# Altium footprint library WR-BTB.PcbLib: 27 footprints (part 1 of 2)
Each footprint in its own frame and in the unit in brackets; x right, y up, seen from the top. Pads: shape width x height; smd on the part's side, far side on the other; paste and mask are expansions set on the pad; w line width, h text height; cw(c..) or ccw(c..) is an arc to the next point about the centre after c.
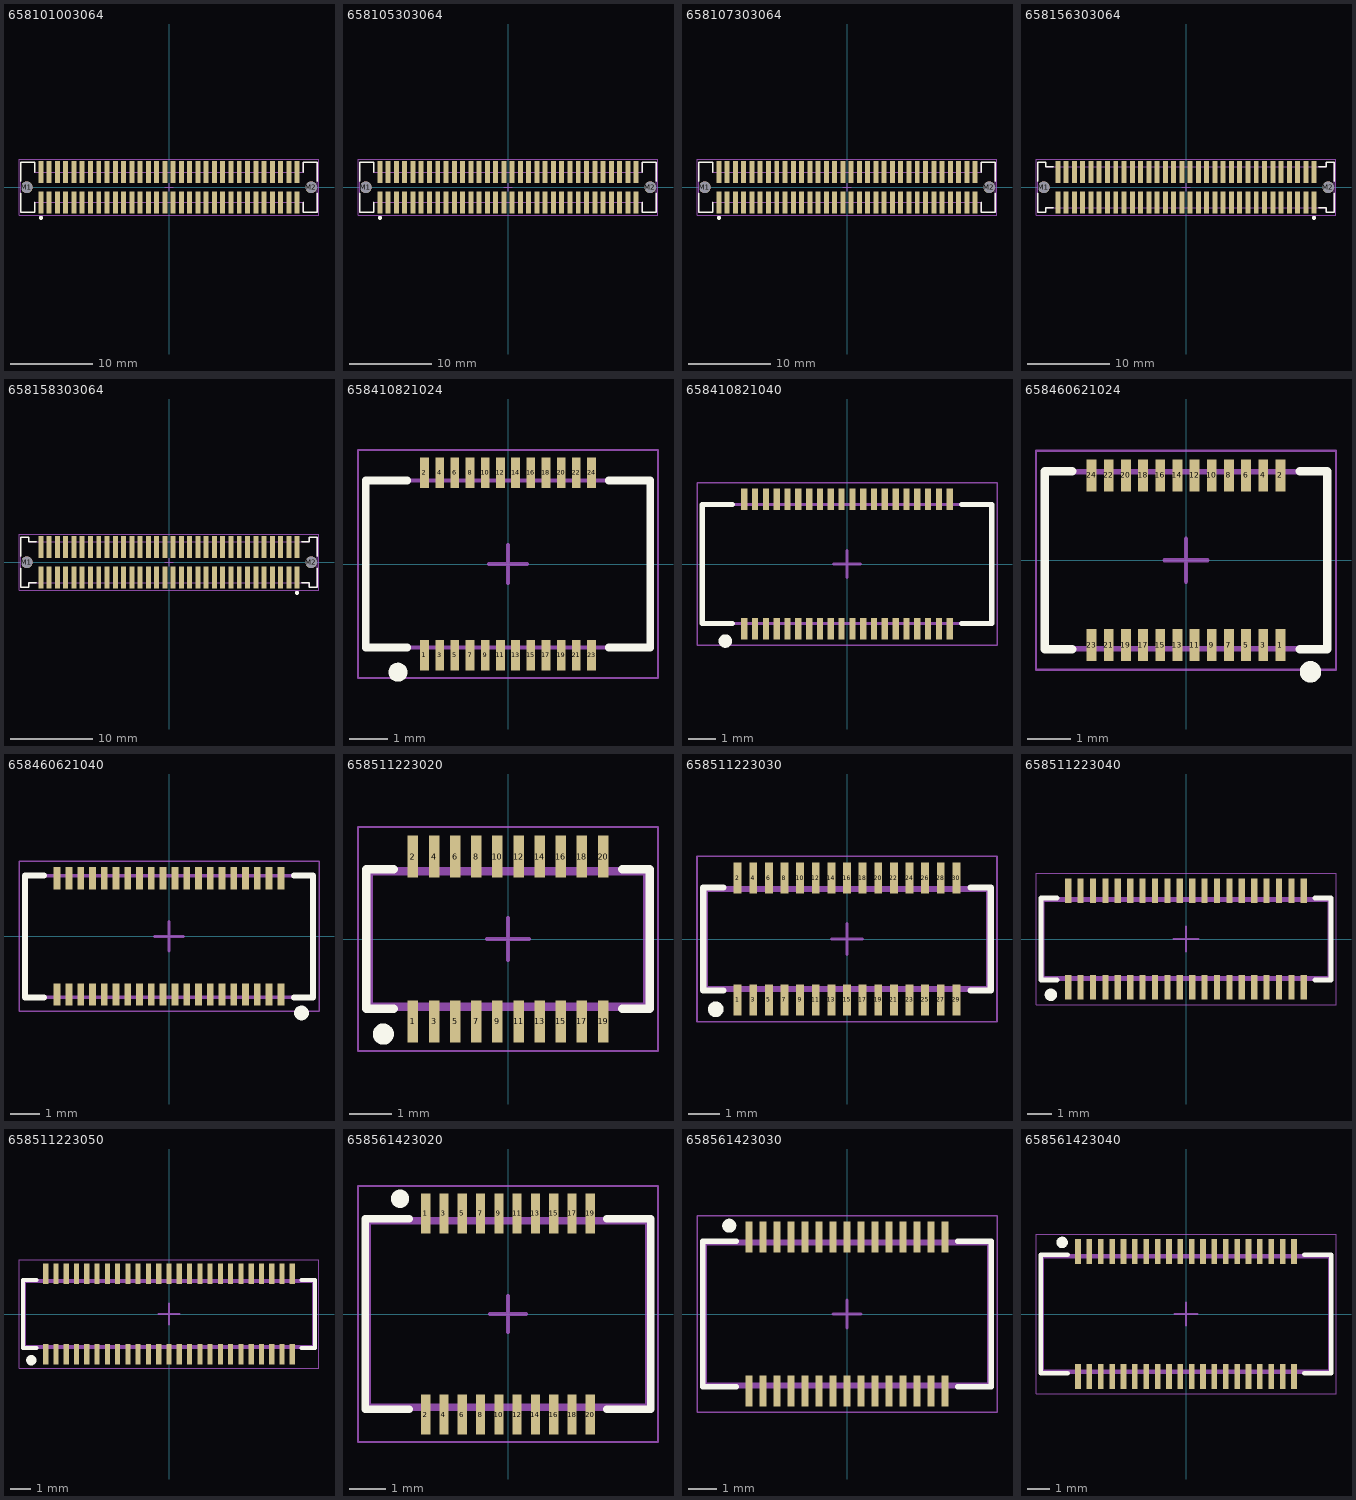
[diagram p0: the footprints below, top view; thin cyan lines are the x and y axes]

## 658101003064 [mm] "1.00mm SMT Female Shrouded Vertical Receptacle 10.30mm height, 64p"
height 10.3
pads (66):
  rect 0.6x2.7 smd: 1(-15.5,-1.85) 2(-15.5,1.85) 3(-14.5,-1.85) 4(-14.5,1.85) 5(-13.5,-1.85) 6(-13.5,1.85) 7(-12.5,-1.85) 8(-12.5,1.85) 9(-11.5,-1.85) 10(-11.5,1.85) 11(-10.5,-1.85) 12(-10.5,1.85) 13(-9.5,-1.85) 14(-9.5,1.85) 15(-8.5,-1.85) 16(-8.5,1.85) 17(-7.5,-1.85) 18(-7.5,1.85) 19(-6.5,-1.85) 20(-6.5,1.85) 21(-5.5,-1.85) 22(-5.5,1.85) 23(-4.5,-1.85) 24(-4.5,1.85) 25(-3.5,-1.85) 26(-3.5,1.85) 27(-2.5,-1.85) 28(-2.5,1.85) 29(-1.5,-1.85) 30(-1.5,1.85) 31(-0.5,-1.85) 32(-0.5,1.85) 33(0.5,-1.85) 34(0.5,1.85) 35(1.5,-1.85) 36(1.5,1.85) 37(2.5,-1.85) 38(2.5,1.85) 39(3.5,-1.85) 40(3.5,1.85) 41(4.5,-1.85) 42(4.5,1.85) 43(5.5,-1.85) 44(5.5,1.85) 45(6.5,-1.85) 46(6.5,1.85) 47(7.5,-1.85) 48(7.5,1.85) 49(8.5,-1.85) 50(8.5,1.85) 51(9.5,-1.85) 52(9.5,1.85) 53(10.5,-1.85) 54(10.5,1.85) 55(11.5,-1.85) 56(11.5,1.85) 57(12.5,-1.85) 58(12.5,1.85) 59(13.5,-1.85) 60(13.5,1.85) 61(14.5,-1.85) 62(14.5,1.85) 63(15.5,-1.85) 64(15.5,1.85)
  round 1.4 hole 1.4 unplated: M1(-17.2,0) M2(17.2,0)
Top Overlay:
  circle w0.25: c-15.5,-3.7 r0.125
  lines w0.2: -17.95,-0.75 -17.95,-3.025 -16.23,-3.025 -16.23,-1.805 ; -17.95,0.75 -17.95,3.025 -16.23,3.025 -16.23,1.805 ; 16.23,-1.805 16.23,-3.025 17.95,-3.025 17.95,-0.75 ; 16.23,1.805 16.23,3.025 17.95,3.025 17.95,0.75
Top Assembly:
  lines w0.1: -16.23,1.805 -16.23,3.025 -17.95,3.025 -17.95,-3.025 -16.23,-3.025 -16.23,-1.805 -16.225,-1.8 ; -16.225,-1.805 16.23,-1.805 16.23,-3.025 17.95,-3.025 17.95,3.025 16.23,3.025 16.23,1.805 ; -16.225,1.8 16.23,1.8
Top Designator:
  text ".Designator" at -3.647,-0.357 h1
Top 3D Body:
  lines w0.1: -16.23,1.805 -16.23,3.025 -17.95,3.025 -17.95,-3.025 -16.23,-3.025 -16.23,-1.805 -16.225,-1.8 ; -16.225,-1.805 16.23,-1.805 16.23,-3.025 17.95,-3.025 17.95,3.025 16.23,3.025 16.23,1.805 ; -16.225,1.8 16.23,1.8
Top Courtyard:
  lines w0.05: -18.15,-3.4 18.15,-3.4 18.15,3.4 -18.15,3.4 -18.15,-3.4
Top Component Center:
  lines w0.1: -0.5,0 0.5,0 ; 0,-0.5 0,0.5
3D body "658101003064.stp": height 10.55, standoff -0.75, extent -17.95,-3.35 17.95,3.35

## 658105303064 [mm] "1.00mm SMT Female Shrouded Vertical Receptacle 5.30mm height, 64p"
height 5.3
pads (66):
  rect 0.6x2.7 smd: 1(-15.5,-1.85) 2(-15.5,1.85) 3(-14.5,-1.85) 4(-14.5,1.85) 5(-13.5,-1.85) 6(-13.5,1.85) 7(-12.5,-1.85) 8(-12.5,1.85) 9(-11.5,-1.85) 10(-11.5,1.85) 11(-10.5,-1.85) 12(-10.5,1.85) 13(-9.5,-1.85) 14(-9.5,1.85) 15(-8.5,-1.85) 16(-8.5,1.85) 17(-7.5,-1.85) 18(-7.5,1.85) 19(-6.5,-1.85) 20(-6.5,1.85) 21(-5.5,-1.85) 22(-5.5,1.85) 23(-4.5,-1.85) 24(-4.5,1.85) 25(-3.5,-1.85) 26(-3.5,1.85) 27(-2.5,-1.85) 28(-2.5,1.85) 29(-1.5,-1.85) 30(-1.5,1.85) 31(-0.5,-1.85) 32(-0.5,1.85) 33(0.5,-1.85) 34(0.5,1.85) 35(1.5,-1.85) 36(1.5,1.85) 37(2.5,-1.85) 38(2.5,1.85) 39(3.5,-1.85) 40(3.5,1.85) 41(4.5,-1.85) 42(4.5,1.85) 43(5.5,-1.85) 44(5.5,1.85) 45(6.5,-1.85) 46(6.5,1.85) 47(7.5,-1.85) 48(7.5,1.85) 49(8.5,-1.85) 50(8.5,1.85) 51(9.5,-1.85) 52(9.5,1.85) 53(10.5,-1.85) 54(10.5,1.85) 55(11.5,-1.85) 56(11.5,1.85) 57(12.5,-1.85) 58(12.5,1.85) 59(13.5,-1.85) 60(13.5,1.85) 61(14.5,-1.85) 62(14.5,1.85) 63(15.5,-1.85) 64(15.5,1.85)
  round 1.4 hole 1.4 unplated: M1(-17.2,0) M2(17.2,0)
Top Overlay:
  circle w0.25: c-15.5,-3.7 r0.125
  lines w0.2: -17.95,-0.75 -17.95,-3.025 -16.23,-3.025 -16.23,-1.805 ; -17.95,0.75 -17.95,3.025 -16.23,3.025 -16.23,1.805 ; 16.23,-1.805 16.23,-3.025 17.95,-3.025 17.95,-0.75 ; 16.23,1.805 16.23,3.025 17.95,3.025 17.95,0.75
Top Assembly:
  lines w0.1: -16.23,1.805 -16.23,3.025 -17.95,3.025 -17.95,-3.025 -16.23,-3.025 -16.23,-1.805 -16.225,-1.8 ; -16.225,-1.805 16.23,-1.805 16.23,-3.025 17.95,-3.025 17.95,3.025 16.23,3.025 16.23,1.805 ; -16.225,1.8 16.23,1.8
Top Designator:
  text ".Designator" at -3.647,-0.357 h1
Top 3D Body:
  lines w0.1: -16.23,1.805 -16.23,3.025 -17.95,3.025 -17.95,-3.025 -16.23,-3.025 -16.23,-1.805 -16.225,-1.8 ; -16.225,-1.805 16.23,-1.805 16.23,-3.025 17.95,-3.025 17.95,3.025 16.23,3.025 16.23,1.805 ; -16.225,1.8 16.23,1.8
Top Courtyard:
  lines w0.05: -18.15,-3.4 18.15,-3.4 18.15,3.4 -18.15,3.4 -18.15,-3.4
Top Component Center:
  lines w0.1: -0.5,0 0.5,0 ; 0,-0.5 0,0.5
3D body "658105303064.stp": height 5.55, standoff -0.75, extent -17.95,-3.35 17.95,3.35

## 658107303064 [mm] "1.00mm SMT Female Shrouded Vertical Receptacle 7.30mm height, 64p"
height 7.3
pads (66):
  rect 0.6x2.7 smd: 1(-15.5,-1.85) 2(-15.5,1.85) 3(-14.5,-1.85) 4(-14.5,1.85) 5(-13.5,-1.85) 6(-13.5,1.85) 7(-12.5,-1.85) 8(-12.5,1.85) 9(-11.5,-1.85) 10(-11.5,1.85) 11(-10.5,-1.85) 12(-10.5,1.85) 13(-9.5,-1.85) 14(-9.5,1.85) 15(-8.5,-1.85) 16(-8.5,1.85) 17(-7.5,-1.85) 18(-7.5,1.85) 19(-6.5,-1.85) 20(-6.5,1.85) 21(-5.5,-1.85) 22(-5.5,1.85) 23(-4.5,-1.85) 24(-4.5,1.85) 25(-3.5,-1.85) 26(-3.5,1.85) 27(-2.5,-1.85) 28(-2.5,1.85) 29(-1.5,-1.85) 30(-1.5,1.85) 31(-0.5,-1.85) 32(-0.5,1.85) 33(0.5,-1.85) 34(0.5,1.85) 35(1.5,-1.85) 36(1.5,1.85) 37(2.5,-1.85) 38(2.5,1.85) 39(3.5,-1.85) 40(3.5,1.85) 41(4.5,-1.85) 42(4.5,1.85) 43(5.5,-1.85) 44(5.5,1.85) 45(6.5,-1.85) 46(6.5,1.85) 47(7.5,-1.85) 48(7.5,1.85) 49(8.5,-1.85) 50(8.5,1.85) 51(9.5,-1.85) 52(9.5,1.85) 53(10.5,-1.85) 54(10.5,1.85) 55(11.5,-1.85) 56(11.5,1.85) 57(12.5,-1.85) 58(12.5,1.85) 59(13.5,-1.85) 60(13.5,1.85) 61(14.5,-1.85) 62(14.5,1.85) 63(15.5,-1.85) 64(15.5,1.85)
  round 1.4 hole 1.4 unplated: M1(-17.2,0) M2(17.2,0)
Top Overlay:
  circle w0.25: c-15.5,-3.7 r0.125
  lines w0.2: -17.95,-0.75 -17.95,-3.025 -16.23,-3.025 -16.23,-1.805 ; -17.95,0.75 -17.95,3.025 -16.23,3.025 -16.23,1.805 ; 16.23,-1.805 16.23,-3.025 17.95,-3.025 17.95,-0.75 ; 16.23,1.805 16.23,3.025 17.95,3.025 17.95,0.75
Top Assembly:
  lines w0.1: -16.23,1.805 -16.23,3.025 -17.95,3.025 -17.95,-3.025 -16.23,-3.025 -16.23,-1.805 -16.225,-1.8 ; -16.225,-1.805 16.23,-1.805 16.23,-3.025 17.95,-3.025 17.95,3.025 16.23,3.025 16.23,1.805 ; -16.225,1.8 16.23,1.8
Top Designator:
  text ".Designator" at -3.647,-0.357 h1
Top 3D Body:
  lines w0.1: -16.23,1.805 -16.23,3.025 -17.95,3.025 -17.95,-3.025 -16.23,-3.025 -16.23,-1.805 -16.225,-1.8 ; -16.225,-1.805 16.23,-1.805 16.23,-3.025 17.95,-3.025 17.95,3.025 16.23,3.025 16.23,1.805 ; -16.225,1.8 16.23,1.8
Top Courtyard:
  lines w0.05: -18.15,-3.4 18.15,-3.4 18.15,3.4 -18.15,3.4 -18.15,-3.4
Top Component Center:
  lines w0.1: -0.5,0 0.5,0 ; 0,-0.5 0,0.5
3D body "658107303064.stp": height 7.55, standoff -0.75, extent -17.95,-3.35 17.95,3.35

## 658156303064 [mm] "1.00mm SMT Male Shrouded Vertical Plug 6.35mm height, 64p"
height 6.35
pads (66):
  rect 0.6x2.7 smd: 1(15.5,-1.85) 2(15.5,1.85) 3(14.5,-1.85) 4(14.5,1.85) 5(13.5,-1.85) 6(13.5,1.85) 7(12.5,-1.85) 8(12.5,1.85) 9(11.5,-1.85) 10(11.5,1.85) 11(10.5,-1.85) 12(10.5,1.85) 13(9.5,-1.85) 14(9.5,1.85) 15(8.5,-1.85) 16(8.5,1.85) 17(7.5,-1.85) 18(7.5,1.85) 19(6.5,-1.85) 20(6.5,1.85) 21(5.5,-1.85) 22(5.5,1.85) 23(4.5,-1.85) 24(4.5,1.85) 25(3.5,-1.85) 26(3.5,1.85) 27(2.5,-1.85) 28(2.5,1.85) 29(1.5,-1.85) 30(1.5,1.85) 31(0.5,-1.85) 32(0.5,1.85) 33(-0.5,-1.85) 34(-0.5,1.85) 35(-1.5,-1.85) 36(-1.5,1.85) 37(-2.5,-1.85) 38(-2.5,1.85) 39(-3.5,-1.85) 40(-3.5,1.85) 41(-4.5,-1.85) 42(-4.5,1.85) 43(-5.5,-1.85) 44(-5.5,1.85) 45(-6.5,-1.85) 46(-6.5,1.85) 47(-7.5,-1.85) 48(-7.5,1.85) 49(-8.5,-1.85) 50(-8.5,1.85) 51(-9.5,-1.85) 52(-9.5,1.85) 53(-10.5,-1.85) 54(-10.5,1.85) 55(-11.5,-1.85) 56(-11.5,1.85) 57(-12.5,-1.85) 58(-12.5,1.85) 59(-13.5,-1.85) 60(-13.5,1.85) 61(-14.5,-1.85) 62(-14.5,1.85) 63(-15.5,-1.85) 64(-15.5,1.85)
  round 1.4 hole 1.4 unplated: M1(-17.2,0) M2(17.2,0)
Top Overlay:
  circle w0.25: c15.5,-3.7 r0.125
  lines w0.2: -17.95,-0.75 -17.95,-3.025 -16.95,-3.025 -16.95,-2.5 -16.1,-2.5 ; -17.95,0.75 -17.95,3.025 -16.95,3.025 -16.95,2.5 -16.1,2.5 ; 16.1,-2.5 16.95,-2.5 16.95,-3.025 17.95,-3.025 17.95,-0.75 ; 16.1,2.5 16.95,2.5 16.95,3.025 17.95,3.025 17.95,0.75
Top Assembly:
  lines w0.1: -17.95,-3.025 -16.95,-3.025 -16.95,-2.5 16.95,-2.5 16.95,-3.025 17.95,-3.025 17.95,3.025 16.95,3.025 16.95,2.5 -16.95,2.5 -16.95,3.025 -17.95,3.025 -17.95,-3.025
Top Designator:
  text ".Designator" at -3.647,-0.357 h1
Top 3D Body:
  lines w0.1: -17.95,-3.025 -17.95,3.025 -16.95,3.025 -16.95,2.5 16.95,2.5 16.95,3.025 17.95,3.025 17.95,-3.025 16.95,-3.025 16.95,-2.5 -16.95,-2.5 -16.95,-3.025 -17.95,-3.025
Top Courtyard:
  lines w0.05: -18.15,-3.4 18.15,-3.4 18.15,3.4 -18.15,3.4 -18.15,-3.4
Top Component Center:
  lines w0.1: -0.5,0 0.5,0 ; 0,-0.5 0,0.5
3D body "658156303064.stp": height 6.6, standoff -0.75, extent -17.95,-3.3 17.95,3.3

## 658158303064 [mm] "1.00mm SMT Male Shrouded Vertical Plug 8.35mm height, 64p"
height 8.35
pads (66):
  rect 0.6x2.7 smd: 1(15.5,-1.85) 2(15.5,1.85) 3(14.5,-1.85) 4(14.5,1.85) 5(13.5,-1.85) 6(13.5,1.85) 7(12.5,-1.85) 8(12.5,1.85) 9(11.5,-1.85) 10(11.5,1.85) 11(10.5,-1.85) 12(10.5,1.85) 13(9.5,-1.85) 14(9.5,1.85) 15(8.5,-1.85) 16(8.5,1.85) 17(7.5,-1.85) 18(7.5,1.85) 19(6.5,-1.85) 20(6.5,1.85) 21(5.5,-1.85) 22(5.5,1.85) 23(4.5,-1.85) 24(4.5,1.85) 25(3.5,-1.85) 26(3.5,1.85) 27(2.5,-1.85) 28(2.5,1.85) 29(1.5,-1.85) 30(1.5,1.85) 31(0.5,-1.85) 32(0.5,1.85) 33(-0.5,-1.85) 34(-0.5,1.85) 35(-1.5,-1.85) 36(-1.5,1.85) 37(-2.5,-1.85) 38(-2.5,1.85) 39(-3.5,-1.85) 40(-3.5,1.85) 41(-4.5,-1.85) 42(-4.5,1.85) 43(-5.5,-1.85) 44(-5.5,1.85) 45(-6.5,-1.85) 46(-6.5,1.85) 47(-7.5,-1.85) 48(-7.5,1.85) 49(-8.5,-1.85) 50(-8.5,1.85) 51(-9.5,-1.85) 52(-9.5,1.85) 53(-10.5,-1.85) 54(-10.5,1.85) 55(-11.5,-1.85) 56(-11.5,1.85) 57(-12.5,-1.85) 58(-12.5,1.85) 59(-13.5,-1.85) 60(-13.5,1.85) 61(-14.5,-1.85) 62(-14.5,1.85) 63(-15.5,-1.85) 64(-15.5,1.85)
  round 1.4 hole 1.4 unplated: M1(-17.2,0) M2(17.2,0)
Top Overlay:
  circle w0.25: c15.5,-3.7 r0.125
  lines w0.2: -17.95,-0.75 -17.95,-3.025 -16.95,-3.025 -16.95,-2.5 -16.1,-2.5 ; -17.95,0.75 -17.95,3.025 -16.95,3.025 -16.95,2.5 -16.1,2.5 ; 16.1,-2.5 16.95,-2.5 16.95,-3.025 17.95,-3.025 17.95,-0.75 ; 16.1,2.5 16.95,2.5 16.95,3.025 17.95,3.025 17.95,0.75
Top Assembly:
  lines w0.1: -17.95,-3.025 -17.95,3.025 -16.95,3.025 -16.95,2.5 16.95,2.5 16.95,3.025 17.95,3.025 17.95,-3.025 16.95,-3.025 16.95,-2.5 -16.95,-2.5 -16.95,-3.025 -17.95,-3.025
Top Designator:
  text ".Designator" at -3.647,-0.357 h1
Top 3D Body:
  lines w0.1: -17.95,-3.025 -16.95,-3.025 -16.95,-2.5 16.95,-2.5 16.95,-3.025 17.95,-3.025 17.95,3.025 16.95,3.025 16.95,2.5 -16.95,2.5 -16.95,3.025 -17.95,3.025 -17.95,-3.025
Top Courtyard:
  lines w0.05: -18.15,-3.4 18.15,-3.4 18.15,3.4 -18.15,3.4 -18.15,-3.4
Top Component Center:
  lines w0.1: -0.5,0 0.5,0 ; 0,-0.5 0,0.5
3D body "658158303064.stp": height 8.6, standoff -0.75, extent -17.95,-3.3 17.95,3.3

## 658410821024 [mm] "0,4mm Vertical Receptacle"
height 0.87
pads (24):
  rect 0.23x0.8 smd: 1(-2.2,-2.4) 2(-2.2,2.4) 3(-1.8,-2.4) 4(-1.8,2.4) 5(-1.4,-2.4) 6(-1.4,2.4) 7(-1,-2.4) 8(-1,2.4) 9(-0.6,-2.4) 10(-0.6,2.4) 11(-0.2,-2.4) 12(-0.2,2.4) 13(0.2,-2.4) 14(0.2,2.4) 15(0.6,-2.4) 16(0.6,2.4) 17(1,-2.4) 18(1,2.4) 19(1.4,-2.4) 20(1.4,2.4) 21(1.8,-2.4) 22(1.8,2.4) 23(2.2,-2.4) 24(2.2,2.4)
Top Overlay:
  circle w0.25: c-2.9,-2.85 r0.125
  lines w0.2: -2.65,-2.2 -3.75,-2.2 -3.75,2.2 -2.65,2.2 ; 2.65,-2.2 3.75,-2.2 3.75,2.2 2.65,2.2
Top Assembly:
  lines w0.1: -3.75,-2.2 -3.75,2.2 3.75,2.2 3.75,-2.2 -3.75,-2.2
Top Designator:
  text ".Designator" at -3.647,-0.357 h1
Top 3D Body:
  lines w0.1: -3.75,-2.2 -3.75,2.2 3.75,2.2 3.75,-2.2 -3.75,-2.2
Top Courtyard:
  lines w0.05: -3.95,-3 -3.95,3 3.95,3 3.95,-3 -3.95,-3
Top Component Center:
  lines w0.1: -0.5,0 0.5,0 ; 0,-0.5 0,0.5
3D body "658410821024.stp": height 0.88, standoff 0.01, extent -3.75,-2.5 3.75,2.5

## 658410821040 [mm] "0,4mm Vertical Receptacle"
height 0.87
pads (40):
  rect 0.23x0.8 smd: 1(-3.8,-2.4) 2(-3.8,2.4) 3(-3.4,-2.4) 4(-3.4,2.4) 5(-3,-2.4) 6(-3,2.4) 7(-2.6,-2.4) 8(-2.6,2.4) 9(-2.2,-2.4) 10(-2.2,2.4) 11(-1.8,-2.4) 12(-1.8,2.4) 13(-1.4,-2.4) 14(-1.4,2.4) 15(-1,-2.4) 16(-1,2.4) 17(-0.6,-2.4) 18(-0.6,2.4) 19(-0.2,-2.4) 20(-0.2,2.4) 21(0.2,-2.4) 22(0.2,2.4) 23(0.6,-2.4) 24(0.6,2.4) 25(1,-2.4) 26(1,2.4) 27(1.4,-2.4) 28(1.4,2.4) 29(1.8,-2.4) 30(1.8,2.4) 31(2.2,-2.4) 32(2.2,2.4) 33(2.6,-2.4) 34(2.6,2.4) 35(3,-2.4) 36(3,2.4) 37(3.4,-2.4) 38(3.4,2.4) 39(3.8,-2.4) 40(3.8,2.4)
Top Overlay:
  circle w0.25: c-4.5,-2.85 r0.125
  lines w0.2: -4.25,-2.2 -5.35,-2.2 -5.35,2.2 -4.25,2.2 ; 4.25,-2.2 5.35,-2.2 5.35,2.2 4.25,2.2
Top Assembly:
  lines w0.1: -5.35,-2.2 5.35,-2.2 5.35,2.2 -5.35,2.2 -5.35,-2.2
Top Designator:
  text ".Designator" at -3.647,-0.357 h1
Top 3D Body:
  lines w0.1: -5.35,-2.2 5.35,-2.2 5.35,2.2 -5.35,2.2 -5.35,-2.2
Top Courtyard:
  lines w0.05: -5.55,-3 5.55,-3 5.55,3 -5.55,3 -5.55,-3
Top Component Center:
  lines w0.1: -0.5,0 0.5,0 ; 0,-0.5 0,0.5
3D body "658410821040.stp": height 0.88, standoff 0.01, extent -5.35,-2.5 5.35,2.5

## 658460621024 [mm] "0,4mm Vertical Plug"
height 0.63
pads (24):
  rect 0.23x0.75 smd: 1(2.2,-1.975) 2(2.2,1.975) 3(1.8,-1.975) 4(1.8,1.975) 5(1.4,-1.975) 6(1.4,1.975) 7(1,-1.975) 8(1,1.975) 9(0.6,-1.975) 10(0.6,1.975) 11(0.2,-1.975) 12(0.2,1.975) 13(-0.2,-1.975) 14(-0.2,1.975) 15(-0.6,-1.975) 16(-0.6,1.975) 17(-1,-1.975) 18(-1,1.975) 19(-1.4,-1.975) 20(-1.4,1.975) 21(-1.8,-1.975) 22(-1.8,1.975) 23(-2.2,-1.975) 24(-2.2,1.975)
Top Overlay:
  circle w0.25: c2.9,-2.6 r0.125
  lines w0.2: -2.65,-2.075 -3.295,-2.075 -3.295,2.075 -2.65,2.075 ; 2.65,-2.075 3.295,-2.075 3.295,2.075 2.65,2.075
Top Assembly:
  lines w0.1: -3.295,-2.075 3.295,-2.075 3.295,2.075 -3.295,2.075 -3.295,-2.075
Top Designator:
  text ".Designator" at -3.647,-0.357 h1
Top 3D Body:
  lines w0.1: -3.27,-2.05 3.27,-2.05 3.27,2.05 -3.27,2.05 -3.27,-2.05
Top Courtyard:
  lines w0.05: -3.495,-2.55 3.495,-2.55 3.495,2.55 -3.495,2.55 -3.495,-2.55
Top Component Center:
  lines w0.1: -0.5,0 0.5,0 ; 0,-0.5 0,0.5
3D body "658460621024.stp": height 0.62, standoff -0.01, extent -3.27,-2.05 3.27,2.05

## 658460621040 [mm] "0,4mm Vertical Plug"
height 0.63
pads (40):
  rect 0.23x0.75 smd: 1(3.8,-1.975) 2(3.8,1.975) 3(3.4,-1.975) 4(3.4,1.975) 5(3,-1.975) 6(3,1.975) 7(2.6,-1.975) 8(2.6,1.975) 9(2.2,-1.975) 10(2.2,1.975) 11(1.8,-1.975) 12(1.8,1.975) 13(1.4,-1.975) 14(1.4,1.975) 15(1,-1.975) 16(1,1.975) 17(0.6,-1.975) 18(0.6,1.975) 19(0.2,-1.975) 20(0.2,1.975) 21(-0.2,-1.975) 22(-0.2,1.975) 23(-0.6,-1.975) 24(-0.6,1.975) 25(-1,-1.975) 26(-1,1.975) 27(-1.4,-1.975) 28(-1.4,1.975) 29(-1.8,-1.975) 30(-1.8,1.975) 31(-2.2,-1.975) 32(-2.2,1.975) 33(-2.6,-1.975) 34(-2.6,1.975) 35(-3,-1.975) 36(-3,1.975) 37(-3.4,-1.975) 38(-3.4,1.975) 39(-3.8,-1.975) 40(-3.8,1.975)
Top Overlay:
  circle w0.25: c4.5,-2.6 r0.125
  lines w0.2: -4.25,-2.075 -4.895,-2.075 -4.895,2.075 -4.25,2.075 ; 4.25,-2.075 4.895,-2.075 4.895,2.075 4.25,2.075
Top Assembly:
  lines w0.1: -4.895,-2.075 4.895,-2.075 4.895,2.075 -4.895,2.075 -4.895,-2.075
Top Designator:
  text ".Designator" at -3.647,-0.357 h1
Top 3D Body:
  lines w0.1: -4.87,-2.05 4.87,-2.05 4.87,2.05 -4.87,2.05 -4.87,-2.05
Top Courtyard:
  lines w0.05: -5.095,-2.55 5.095,-2.55 5.095,2.55 -5.095,2.55 -5.095,-2.55
Top Component Center:
  lines w0.1: -0.5,0 0.5,0 ; 0,-0.5 0,0.5
3D body "658460621040.stp": height 0.62, standoff -0.01, extent -4.87,-2.05 4.87,2.05

## 658511223020 [mm] "0,5mm Vertical Receptacle"
height 1.2
pads (20):
  rect 0.25x1 smd: 1(-2.25,-1.95) 2(-2.25,1.95) 3(-1.75,-1.95) 4(-1.75,1.95) 5(-1.25,-1.95) 6(-1.25,1.95) 7(-0.75,-1.95) 8(-0.75,1.95) 9(-0.25,-1.95) 10(-0.25,1.95) 11(0.25,-1.95) 12(0.25,1.95) 13(0.75,-1.95) 14(0.75,1.95) 15(1.25,-1.95) 16(1.25,1.95) 17(1.75,-1.95) 18(1.75,1.95) 19(2.25,-1.95) 20(2.25,1.95)
Top Overlay:
  circle w0.25: c-2.95,-2.25 r0.125
  lines w0.2: -2.7,-1.65 -3.35,-1.65 -3.35,1.65 -2.7,1.65 ; 2.7,-1.65 3.35,-1.65 3.35,1.65 2.7,1.65
Top Assembly:
  lines w0.1: -3.35,-1.65 3.35,-1.65 3.35,1.65 -3.35,1.65 -3.35,-1.65
Top Designator:
  text ".Designator" at -3.647,-0.357 h1
Top 3D Body:
  lines w0.1: -3.25,-1.55 3.25,-1.55 3.25,1.55 -3.25,1.55 -3.25,-1.55
Top Courtyard:
  lines w0.05: -3.55,-2.65 3.55,-2.65 3.55,2.65 -3.55,2.65 -3.55,-2.65
Top Component Center:
  lines w0.1: -0.5,0 0.5,0 ; 0,-0.5 0,0.5
3D body "658511223020.stp": height 1.2, standoff 0, extent -3.25,-2.15 3.25,2.15

## 658511223030 [mm] "0,5mm Vertical Receptacle"
height 1.2
pads (30):
  rect 0.25x1 smd: 1(-3.5,-1.95) 2(-3.5,1.95) 3(-3,-1.95) 4(-3,1.95) 5(-2.5,-1.95) 6(-2.5,1.95) 7(-2,-1.95) 8(-2,1.95) 9(-1.5,-1.95) 10(-1.5,1.95) 11(-1,-1.95) 12(-1,1.95) 13(-0.5,-1.95) 14(-0.5,1.95) 15(0,-1.95) 16(0,1.95) 17(0.5,-1.95) 18(0.5,1.95) 19(1,-1.95) 20(1,1.95) 21(1.5,-1.95) 22(1.5,1.95) 23(2,-1.95) 24(2,1.95) 25(2.5,-1.95) 26(2.5,1.95) 27(3,-1.95) 28(3,1.95) 29(3.5,-1.95) 30(3.5,1.95)
Top Overlay:
  circle w0.25: c-4.2,-2.25 r0.125
  lines w0.2: -3.95,-1.65 -4.6,-1.65 -4.6,1.65 -3.95,1.65 ; 3.95,-1.65 4.6,-1.65 4.6,1.65 3.95,1.65
Top Assembly:
  lines w0.1: -4.6,-1.65 -4.6,1.65 4.6,1.65 4.6,-1.65 -4.6,-1.65
Top Designator:
  text ".Designator" at -3.647,-0.357 h1
Top 3D Body:
  lines w0.1: -4.5,-1.55 4.5,-1.55 4.5,1.55 -4.5,1.55 -4.5,-1.55
Top Courtyard:
  lines w0.05: -4.8,-2.65 -4.8,2.65 4.8,2.65 4.8,-2.65 -4.8,-2.65
Top Component Center:
  lines w0.1: -0.5,0 0.5,0 ; 0,-0.5 0,0.5
3D body "658511223030.stp": height 1.2, standoff 0, extent -4.5,-2.15 4.5,2.15

## 658511223040 [mm] "0,5mm Vertical Receptacle"
height 1.2
pads (40):
  rect 0.25x1 smd: 1(-4.75,-1.95) 2(-4.75,1.95) 3(-4.25,-1.95) 4(-4.25,1.95) 5(-3.75,-1.95) 6(-3.75,1.95) 7(-3.25,-1.95) 8(-3.25,1.95) 9(-2.75,-1.95) 10(-2.75,1.95) 11(-2.25,-1.95) 12(-2.25,1.95) 13(-1.75,-1.95) 14(-1.75,1.95) 15(-1.25,-1.95) 16(-1.25,1.95) 17(-0.75,-1.95) 18(-0.75,1.95) 19(-0.25,-1.95) 20(-0.25,1.95) 21(0.25,-1.95) 22(0.25,1.95) 23(0.75,-1.95) 24(0.75,1.95) 25(1.25,-1.95) 26(1.25,1.95) 27(1.75,-1.95) 28(1.75,1.95) 29(2.25,-1.95) 30(2.25,1.95) 31(2.75,-1.95) 32(2.75,1.95) 33(3.25,-1.95) 34(3.25,1.95) 35(3.75,-1.95) 36(3.75,1.95) 37(4.25,-1.95) 38(4.25,1.95) 39(4.75,-1.95) 40(4.75,1.95)
Top Overlay:
  circle w0.25: c-5.45,-2.25 r0.125
  lines w0.2: -5.2,-1.65 -5.85,-1.65 -5.85,1.65 -5.2,1.65 ; 5.2,-1.65 5.85,-1.65 5.85,1.65 5.2,1.65
Top Assembly:
  lines w0.1: -5.85,-1.65 5.85,-1.65 5.85,1.65 -5.85,1.65 -5.85,-1.65
Top Designator:
  text ".Designator" at -3.647,-0.357 h1
Top 3D Body:
  lines w0.1: -5.75,-1.55 -5.75,1.55 5.75,1.55 5.75,-1.55 -5.75,-1.55
Top Courtyard:
  lines w0.05: -6.05,-2.65 6.05,-2.65 6.05,2.65 -6.05,2.65 -6.05,-2.65
Top Component Center:
  lines w0.1: -0.5,0 0.5,0 ; 0,-0.5 0,0.5
3D body "658511223040.stp": height 1.2, standoff 0, extent -5.75,-2.15 5.75,2.15

## 658511223050 [mm] "0,5mm Vertical Receptacle"
height 1.2
pads (50):
  rect 0.25x1 smd: 1(-6,-1.95) 2(-6,1.95) 3(-5.5,-1.95) 4(-5.5,1.95) 5(-5,-1.95) 6(-5,1.95) 7(-4.5,-1.95) 8(-4.5,1.95) 9(-4,-1.95) 10(-4,1.95) 11(-3.5,-1.95) 12(-3.5,1.95) 13(-3,-1.95) 14(-3,1.95) 15(-2.5,-1.95) 16(-2.5,1.95) 17(-2,-1.95) 18(-2,1.95) 19(-1.5,-1.95) 20(-1.5,1.95) 21(-1,-1.95) 22(-1,1.95) 23(-0.5,-1.95) 24(-0.5,1.95) 25(0,-1.95) 26(0,1.95) 27(0.5,-1.95) 28(0.5,1.95) 29(1,-1.95) 30(1,1.95) 31(1.5,-1.95) 32(1.5,1.95) 33(2,-1.95) 34(2,1.95) 35(2.5,-1.95) 36(2.5,1.95) 37(3,-1.95) 38(3,1.95) 39(3.5,-1.95) 40(3.5,1.95) 41(4,-1.95) 42(4,1.95) 43(4.5,-1.95) 44(4.5,1.95) 45(5,-1.95) 46(5,1.95) 47(5.5,-1.95) 48(5.5,1.95) 49(6,-1.95) 50(6,1.95)
Top Overlay:
  circle w0.25: c-6.7,-2.25 r0.125
  lines w0.2: -6.45,-1.65 -7.1,-1.65 -7.1,1.65 -6.45,1.65 ; 6.45,-1.65 7.1,-1.65 7.1,1.65 6.45,1.65
Top Assembly:
  lines w0.1: -7.1,-1.65 7.1,-1.65 7.1,1.65 -7.1,1.65 -7.1,-1.65
Top Designator:
  text ".Designator" at -3.647,-0.357 h1
Top 3D Body:
  lines w0.1: -7,-1.55 7,-1.55 7,1.55 -7,1.55 -7,-1.55
Top Courtyard:
  lines w0.05: -7.3,-2.65 7.3,-2.65 7.3,2.65 -7.3,2.65 -7.3,-2.65
Top Component Center:
  lines w0.1: -0.5,0 0.5,0 ; 0,-0.5 0,0.5
3D body "658511223050.stp": height 1.2, standoff 0, extent -7,-2.15 7,2.15

## 658561423020 [mm] "0,5mm Vertical Plug"
height 1.4
pads (20):
  rect 0.25x1.1 smd: 1(-2.25,2.75) 2(-2.25,-2.75) 3(-1.75,2.75) 4(-1.75,-2.75) 5(-1.25,2.75) 6(-1.25,-2.75) 7(-0.75,2.75) 8(-0.75,-2.75) 9(-0.25,2.75) 10(-0.25,-2.75) 11(0.25,2.75) 12(0.25,-2.75) 13(0.75,2.75) 14(0.75,-2.75) 15(1.25,2.75) 16(1.25,-2.75) 17(1.75,2.75) 18(1.75,-2.75) 19(2.25,2.75) 20(2.25,-2.75)
Top Overlay:
  circle w0.25: c-2.95,3.15 r0.125
  lines w0.2: -2.7,-2.6 -3.9,-2.6 -3.9,2.6 -2.7,2.6 ; 2.7,-2.6 3.9,-2.6 3.9,2.6 2.7,2.6
Top Assembly:
  lines w0.1: -3.9,-2.6 -3.9,2.6 3.9,2.6 3.9,-2.6 -3.9,-2.6
Top Designator:
  text ".Designator" at -3.647,-0.357 h1
Top 3D Body:
  lines w0.1: -3.8,-2.5 -3.8,2.5 3.8,2.5 3.8,-2.5 -3.8,-2.5
Top Courtyard:
  lines w0.05: -4.1,-3.5 -4.1,3.5 4.1,3.5 4.1,-3.5 -4.1,-3.5
Top Component Center:
  lines w0.1: -0.5,0 0.5,0 ; 0,-0.5 0,0.5
3D body "658561423020.stp": height 1.47, standoff 0.01, extent -3.8,-3.001 3.8,3.001

## 658561423030 [mm] "0,5mm Vertical Plug"
height 1.4
pads (30):
  rect 0.25x1.1 smd: 1(-3.5,2.75) 2(-3.5,-2.75) 3(-3,2.75) 4(-3,-2.75) 5(-2.5,2.75) 6(-2.5,-2.75) 7(-2,2.75) 8(-2,-2.75) 9(-1.5,2.75) 10(-1.5,-2.75) 11(-1,2.75) 12(-1,-2.75) 13(-0.5,2.75) 14(-0.5,-2.75) 15(0,2.75) 16(0,-2.75) 17(0.5,2.75) 18(0.5,-2.75) 19(1,2.75) 20(1,-2.75) 21(1.5,2.75) 22(1.5,-2.75) 23(2,2.75) 24(2,-2.75) 25(2.5,2.75) 26(2.5,-2.75) 27(3,2.75) 28(3,-2.75) 29(3.5,2.75) 30(3.5,-2.75)
Top Overlay:
  circle w0.25: c-4.2,3.15 r0.125
  lines w0.2: -3.95,-2.6 -5.15,-2.6 -5.15,2.6 -3.95,2.6 ; 3.95,-2.6 5.15,-2.6 5.15,2.6 3.95,2.6
Top Assembly:
  lines w0.1: -5.15,-2.6 -5.15,2.6 5.15,2.6 5.15,-2.6 -5.15,-2.6
Top Designator:
  text ".Designator" at -3.647,-0.357 h1
Top 3D Body:
  lines w0.1: -5.05,-2.5 5.05,-2.5 5.05,2.5 -5.05,2.5 -5.05,-2.5
Top Courtyard:
  lines w0.05: -5.35,-3.5 -5.35,3.5 5.35,3.5 5.35,-3.5 -5.35,-3.5
Top Component Center:
  lines w0.1: -0.5,0 0.5,0 ; 0,-0.5 0,0.5
3D body "658561423030.stp": height 1.47, standoff 0.01, extent -5.05,-3.001 5.05,3.001

## 658561423040 [mm] "0,5mm Vertical Plug"
height 1.4
pads (40):
  rect 0.25x1.1 smd: 1(-4.75,2.75) 2(-4.75,-2.75) 3(-4.25,2.75) 4(-4.25,-2.75) 5(-3.75,2.75) 6(-3.75,-2.75) 7(-3.25,2.75) 8(-3.25,-2.75) 9(-2.75,2.75) 10(-2.75,-2.75) 11(-2.25,2.75) 12(-2.25,-2.75) 13(-1.75,2.75) 14(-1.75,-2.75) 15(-1.25,2.75) 16(-1.25,-2.75) 17(-0.75,2.75) 18(-0.75,-2.75) 19(-0.25,2.75) 20(-0.25,-2.75) 21(0.25,2.75) 22(0.25,-2.75) 23(0.75,2.75) 24(0.75,-2.75) 25(1.25,2.75) 26(1.25,-2.75) 27(1.75,2.75) 28(1.75,-2.75) 29(2.25,2.75) 30(2.25,-2.75) 31(2.75,2.75) 32(2.75,-2.75) 33(3.25,2.75) 34(3.25,-2.75) 35(3.75,2.75) 36(3.75,-2.75) 37(4.25,2.75) 38(4.25,-2.75) 39(4.75,2.75) 40(4.75,-2.75)
Top Overlay:
  circle w0.25: c-5.45,3.15 r0.125
  lines w0.2: -5.2,-2.6 -6.4,-2.6 -6.4,2.6 -5.2,2.6 ; 5.2,-2.6 6.4,-2.6 6.4,2.6 5.2,2.6
Top Assembly:
  lines w0.1: -6.4,-2.6 6.4,-2.6 6.4,2.6 -6.4,2.6 -6.4,-2.6
Top Designator:
  text ".Designator" at -3.647,-0.357 h1
Top 3D Body:
  lines w0.1: -6.3,-2.5 6.3,-2.5 6.3,2.5 -6.3,2.5 -6.3,-2.5
Top Courtyard:
  lines w0.05: -6.6,-3.5 6.6,-3.5 6.6,3.5 -6.6,3.5 -6.6,-3.5
Top Component Center:
  lines w0.1: -0.5,0 0.5,0 ; 0,-0.5 0,0.5
3D body "658561423040.stp": height 1.47, standoff 0.01, extent -6.3,-3.001 6.3,3.001